# Altium schematic symbol library JQC-3F-1C-24VDC.SchLib: 1 symbol
Pins are listed as number, name and electrical type; pins without a type are passive.

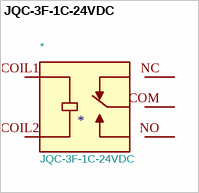
[diagram p0: symbol JQC-3F-1C-24VDC]

## JQC-3F-1C-24VDC
designator *  value JQC-3F-1C-24VDC
\n                        \n                            Miniature PCB Relay 24VDC, 10A 250VAC, 15A 125VAC, 10A 250VAC\n                        \n; MF: YUEQING HENGWEI ELECTRONICS CO.,LTD.; Footprint: JQC-3F-1C-24VDC:RELAY_JQC-3F-1C-24VDC; MAXIMUM_PACKAGE_HEIGHT: 15.5 mm; Package: None; Price: None; Check_prices: https://www.snapeda.com/parts/JQC-3F-1C-24VDC/YUEQING+HENGWEI+ELECTRONICS+CO.%252CLTD./view-part/?ref=eda; STANDARD: Manufacturer Recommendations; PARTREV: N/A; SnapEDA_Link: https://www.snapeda.com/parts/JQC-3F-1C-24VDC/YUEQING+HENGWEI+ELECTRONICS+CO.%252CLTD./view-part/?ref=snap; MP: JQC-3F-1C-24VDC; Description_: \n                        \n                            Miniature PCB Relay 24VDC, 10A 250VAC, 15A 125VAC, 10A 250VAC\n                        \n; Availability: Not in stock; MANUFACTURER: YUEQING HENGWEI ELECTRONICS CO.,LTD.
footprint RELAY_JQC-3F-1C-24VDC
pins: COIL1, COIL2, COM, NC, NO